# EAGLE library part 68612814422 (library Eagle_FPC_CONNECTOR_AND_FFC_CAB (rev18c))
WR-FPC 1.00mm SMT ZIF Horizontal Bottom Contact, 28 Pins=>Code : Con_FPC_ZIF_1.00_68612814422 <http://katalog.we-online.de/media/images/eican/Con_FPC_ZIF_1.00_6861xx14422_pf2.jpg> Details see: http://katalog.we-online.de/en/em/686_1xx_144_22 Created 2014-07-09, Karrer Zheng 2014 (C) Würth Elektronik
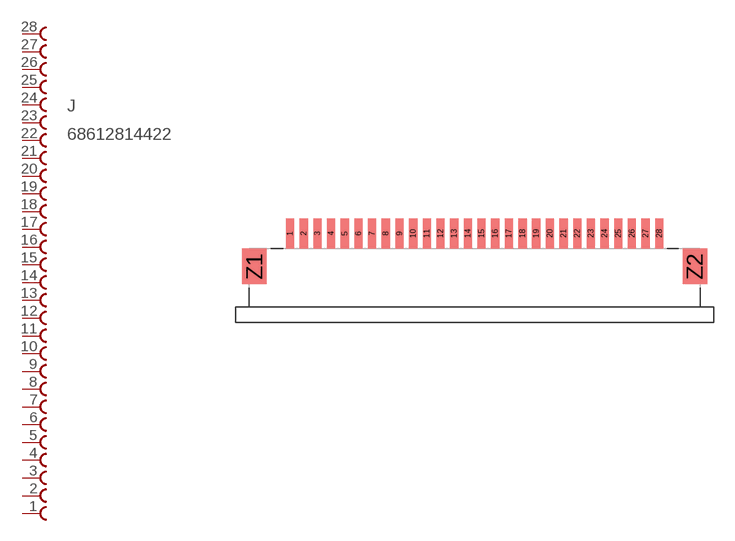
[diagram p14: symbol with the pads of 68612814422; footprint 68612814422]

Designator prefix J

## 68612814422  [68612814422]
1  28  pas
2  27  pas
3  26  pas
4  25  pas
5  24  pas
6  23  pas
7  22  pas
8  21  pas
9  20  pas
10  19  pas
11  18  pas
12  17  pas
13  16  pas
14  15  pas
15  14  pas
16  13  pas
17  12  pas
18  11  pas
19  10  pas
20  9  pas
21  8  pas
22  7  pas
23  6  pas
24  5  pas
25  4  pas
26  3  pas
27  2  pas
28  1  pas

## Footprint 68612814422 (pad centres in mm)
WR-FPC 1.00mm SMT ZIF Horizontal Bottom Contact, 28 Pins
smd 0.6 x 2.2: 1 -13.5,2.4; 2 -12.5,2.4; 3 -11.5,2.4; 4 -10.5,2.4; 5 -9.5,2.4; 6 -8.5,2.4; 7 -7.5,2.4; 8 -6.5,2.4; 9 -5.5,2.4; 10 -4.5,2.4; 11 -3.5,2.4; 12 -2.5,2.4; 13 -1.5,2.4; 14 -0.5,2.4; 15 0.5,2.4; 16 1.5,2.4; 17 2.5,2.4; 18 3.5,2.4; 19 4.5,2.4; 20 5.5,2.4; 21 6.5,2.4; 22 7.5,2.4; 23 8.5,2.4; 24 9.5,2.4; 25 10.5,2.4; 26 11.5,2.4; 27 12.5,2.4; 28 13.5,2.4
smd 1.8 x 2.6: Z1 -16.1,0; Z2 16.1,0